# EAGLE library part CHARACTER_LCD_8X2 (library character_lcd_RT0802B-1)
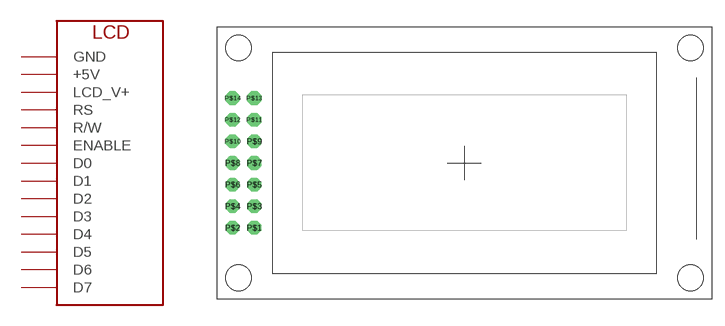
[diagram p0: symbol with the pads of RT0802B-1; footprint RT0802B-1]

Designator prefix -

## CHARACTER_LCD_8X2RT0802  [RT0802B-1]
P$1  GND
P$2  +5V
P$3  LCD_V+
P$4  RS
P$5  R/W
P$6  ENABLE
P$7  D0
P$8  D1
P$9  D2
P$10  D3
P$11  D4
P$12  D5
P$13  D6
P$14  D7

## Footprint RT0802B-1 (pad centres in mm)
drill 0.9 pad 1.6 octagon: P$1 -24.63,-7.62; P$2 -27.17,-7.62; P$3 -24.63,-5.08; P$4 -27.17,-5.08; P$5 -24.63,-2.54; P$6 -27.17,-2.54; P$7 -24.63,0; P$8 -27.17,0; P$9 -24.63,2.54; P$10 -27.17,2.54; P$11 -24.63,5.08; P$12 -27.17,5.08; P$13 -24.63,7.62; P$14 -27.17,7.62